# Altium schematic symbol library LL.SCHLIB: 121 symbols (part 1 of 3)
Pins are listed as number, name and electrical type; pins without a type are passive.

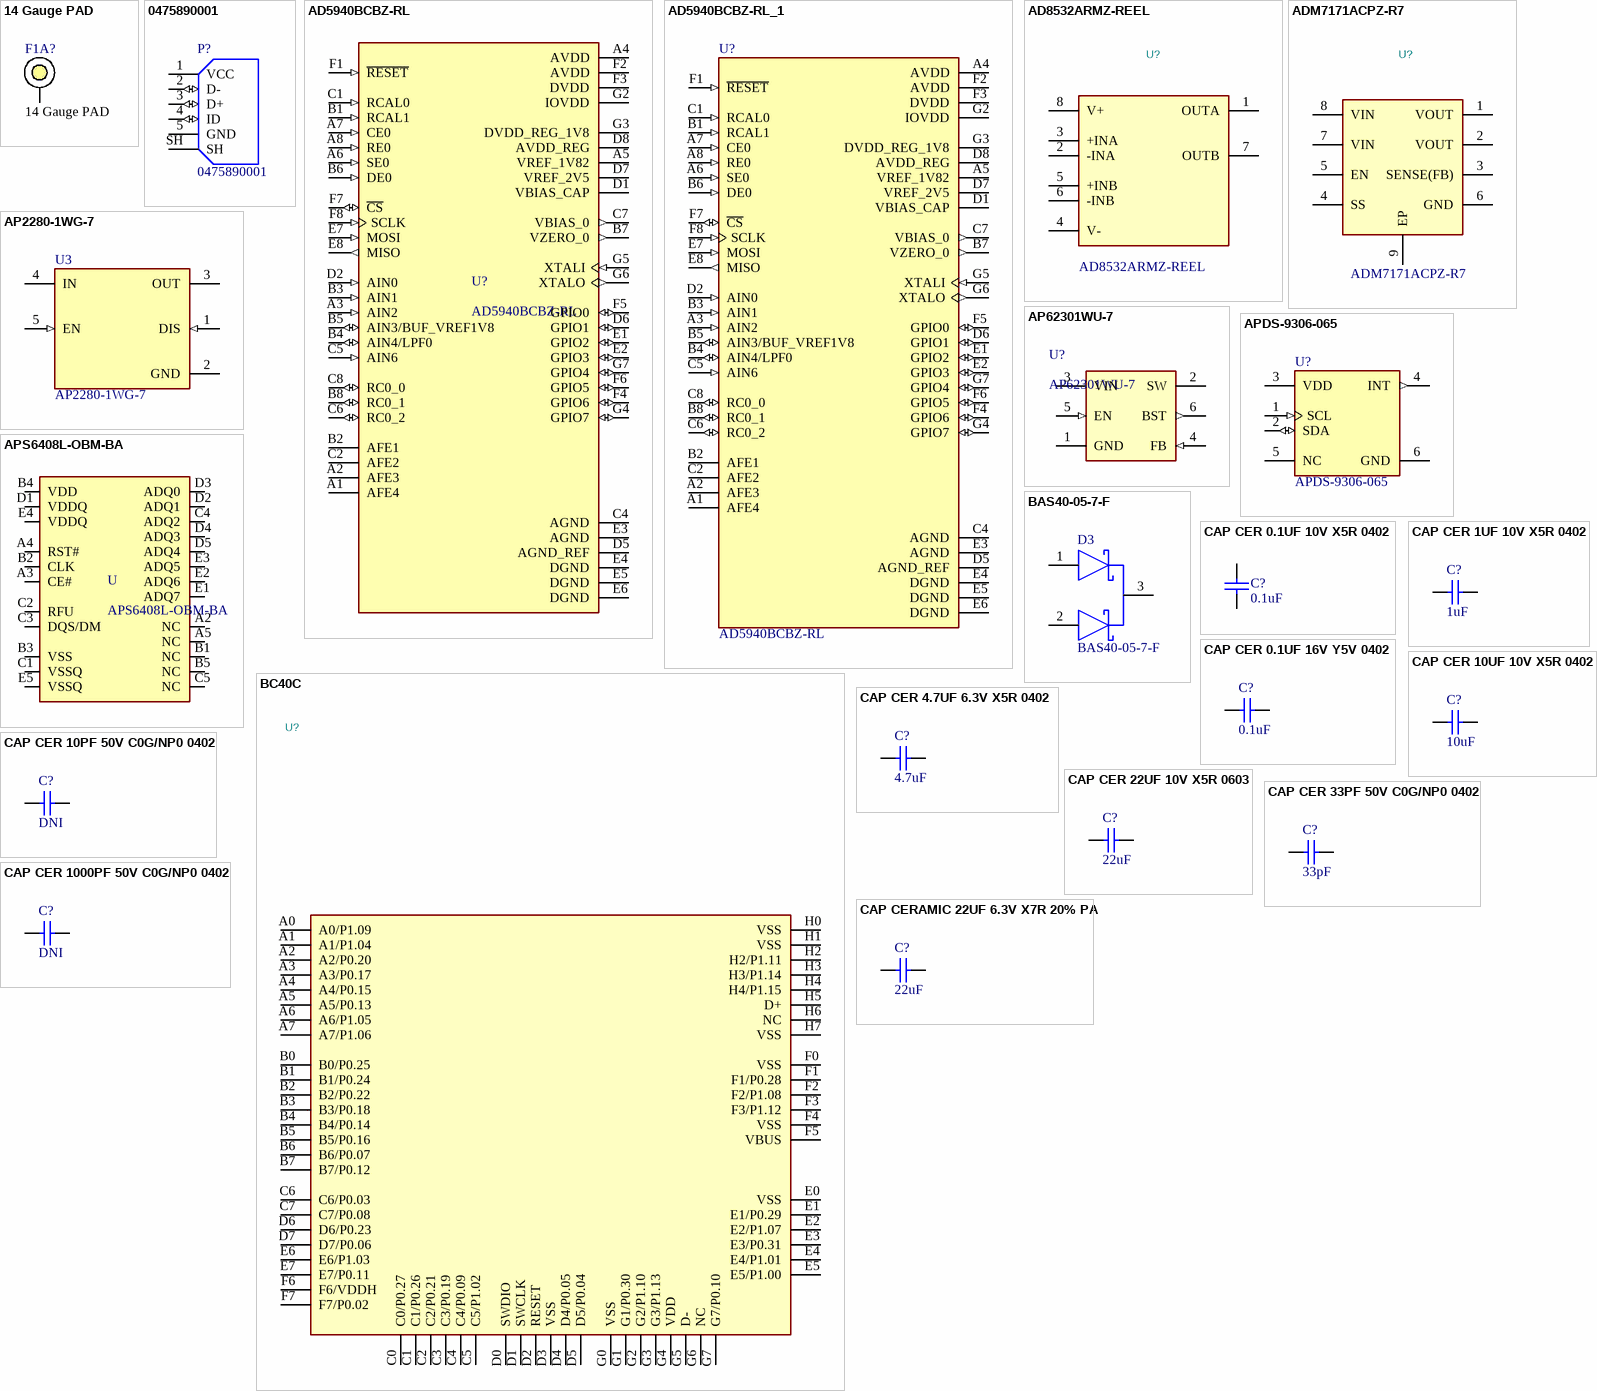
[diagram p0: symbols 14 Gauge PAD to CAP CERAMIC 22UF 6.3V X7R 20% PA]

## 14 Gauge PAD
designator F1A?  (no BOM)
5.2MM WIRE PAD; Number: NA; Manufacturer: NA
footprint PAD_2MM_14gauge (1 mm Probe Pad)
pins: 1

## 0475890001
designator P?
Conn Micro USB Type AB RCP 5 POS 0.65mm Solder RA SMD 5 Terminal 1 Port T/R; Manufacturer: Molex; Part #: S-CONN-009; ManType: 0475890001; Availability: Unavailable
footprint *MOLEX_0475890001
footprint *MOLEX_0475890001
pins: 1 VCC (power), 2 D- (io), 3 D+ (io), 4 ID (io), 5 GND (power), SH (power)

## AD5940BCBZ-RL
designator U?
AFE Electrochemical Measurement 1 ADC 16bit 3.3V 56-Pin WLCSP T/R; Manufacturer: Analog Devices; Interface: Analog; Operating Supply Current: 300uA; Supplier 1: Digikey; Supplier Part Number 1: 505-AD5940BCBZ-RLCT-ND; Manufacturer Part Number: AD5940BCBZ-RL; RoHS: Yes; Category: Analog to Digital Converters (ADCs); Stock: 4230; Pricing: 1=13.27, 10=9.176, 25=8.108, 100=6.9004, 250=6.68752 (USD); Pins: 56; Output Type: Analog; RoHS Compliant: Yes
footprint BGA56N40P7X8_356X416X55N
pins: A1 AFE4, A2 AFE3, A3 AIN2 (in), A4 AVDD (power), A5 VREF_1V82, A6 SE0 (in), A7 CE0 (in), A8 RE0 (in), B1 RCAL1 (in), B2 AFE1, B3 AIN1 (in), B4 AIN4/LPF0 (io), B5 AIN3/BUF_VREF1V8 (io), B6 DE0 (in), B7 VZERO_0 (out), B8 RC0_1 (io), C1 RCAL0 (in), C2 AFE2, C4 AGND (power), C5 AIN6 (in), C6 RC0_2 (io), C7 VBIAS_0 (out), C8 RC0_0 (io), D1 VBIAS_CAP, D2 AIN0 (in), D5 AGND_REF (power), D6 GPIO1 (io), D7 VREF_2V5, D8 AVDD_REG, E1 GPIO2 (io), E2 GPIO3 (io), E3 AGND (power), E4 DGND (power), E5 DGND (power), E6 DGND (power), E7 MOSI (in), E8 MISO (out), F1 ~{RESET} (in), F2 AVDD (power), F3 DVDD (power), F4 GPIO6 (io), F5 GPIO0 (io), F6 GPIO5 (io), F7 ~{CS} (io), F8 SCLK (in), G2 IOVDD (power), G3 DVDD_REG_1V8, G4 GPIO7 (io), G5 XTALI (in), G6 XTALO (out), G7 GPIO4 (io)

## AD5940BCBZ-RL_1
designator U?, comment AD5940BCBZ-RL
AFE Electrochemical Measurement 1 ADC 16bit 3.3V 56-Pin WLCSP T/R; Manufacturer: Analog Devices; Interface: Analog; Operating Supply Current: 300uA; Supplier 1: Digikey; Supplier Part Number 1: 505-AD5940BCBZ-RLCT-ND; Manufacturer Part Number: AD5940BCBZ-RL; RoHS: Yes; Category: Analog to Digital Converters (ADCs); Stock: 4230; Pricing: 1=13.27, 10=9.176, 25=8.108, 100=6.9004, 250=6.68752 (USD); Pins: 56; Output Type: Analog; RoHS Compliant: Yes
footprint BGA56N40P7X8_356X416X55N
pins: A1 AFE4, A2 AFE3, A3 AIN2 (in), A4 AVDD (power), A5 VREF_1V82, A6 SE0 (in), A7 CE0 (in), A8 RE0 (in), B1 RCAL1 (in), B2 AFE1, B3 AIN1 (in), B4 AIN4/LPF0 (io), B5 AIN3/BUF_VREF1V8 (io), B6 DE0 (in), B7 VZERO_0 (out), B8 RC0_1 (io), C1 RCAL0 (in), C2 AFE2, C4 AGND (power), C5 AIN6 (in), C6 RC0_2 (io), C7 VBIAS_0 (out), C8 RC0_0 (io), D1 VBIAS_CAP, D2 AIN0 (in), D5 AGND_REF (power), D6 GPIO1 (io), D7 VREF_2V5, D8 AVDD_REG, E1 GPIO2 (io), E2 GPIO3 (io), E3 AGND (power), E4 DGND (power), E5 DGND (power), E6 DGND (power), E7 MOSI (in), E8 MISO (out), F1 ~{RESET} (in), F2 AVDD (power), F3 DVDD (power), F4 GPIO6 (io), F5 GPIO0 (io), F6 GPIO5 (io), F7 ~{CS} (io), F8 SCLK (in), G2 IOVDD (power), G3 DVDD_REG_1V8, G4 GPIO7 (io), G5 XTALI (in), G6 XTALO (out), G7 GPIO4 (io)

## AD8532ARMZ-REEL
designator U?
Op Amp Dual GP R-R I/O 6V Automotive 8-Pin MSOP T/R / IC OPAMP GP 3MHZ RRO 8MSOP; Manufacturer: Analog Devices; Common Mode Rejection Ratio: 47dB; Min Supply Voltage: 2.7V; Voltage Gain: 98.06dB; Number of Circuits: 2; Slew Rate: 5V/µs; Input Bias Current: 5pA; Input Offset Voltage (Vos): 25mV; Operating Supply Current: 2.5mA; Output Current per Channel: 250mA; Input Voltage Noise Density: 45nV/sqrt Hz; Power Supply Rejection Ratio (PSRR): 55dB; Quiescent Current: 1.25mA; Amplifier Type: GENERAL PURPOSE; Settling Time: 1.4us; Supplier: Digikey; Supplier Part Number: AD8532ARMZ-REELCT-ND; Manufacturer Part Number: AD8532ARMZ-REEL; RoHS: Yes; Category: Amplifiers - Op Amps, Buffer, Instrumentation; Stock: 11818; Pricing: 1=2.22, 10=1.424, 25=1.2136, 100=0.9769, 250=0.86144, 500=0.79092, 1000=0.73223 (USD); Case/Package: MSOP; Pins: 8; Min Operating Temperature: -40°C; Max Operating Temperature: 85°C; Gain Bandwidth Product: 3MHz; Max Supply Voltage: 6V; Packaging: Tape and Reel; Number of Channels: 2; Bandwidth: 3MHz; Package Quantity: 3000; Unity Gain Bandwidth Product: 3MHz; Number of Elements: 2; Number of Amplifiers: 2; Series: -; Technology: CMOS; Radiation Hardening: No; Reach SVHC Compliant: No; Lead Free: Contains Lead; RoHS Compliant: Yes; ComponentLink1URL: https://datasheet.ciiva.com/1793/ad8531-8532-8534-1793585.pdf?src-supplier=Digikey; ComponentLink1Description: https://datasheet.ciiva.com/1793/ad8531-8532-8534-1793585.pdf?src-supplier=Digikey; ComponentLink2URL: https://datasheet.ciiva.com/1793/ad8531-8532-8534-1793586.pdf?src-supplier=Digikey; ComponentLink2Description: https://datasheet.ciiva.com/1793/ad8531-8532-8534-1793586.pdf?src-supplier=Digikey; ComponentLink3URL: https://datasheet.ciiva.com/1793/ad8531-8532-8534-1793587.pdf?src-supplier=Digikey; ComponentLink3Description: https://datasheet.ciiva.com/1793/ad8531-8532-8534-1793587.pdf?src-supplier=Digikey; ComponentLink4URL: https://datasheet.ciiva.com/2973/ad8531-8532-8534-2973058.pdf?src-supplier=Avnet; ComponentLink4Description: https://datasheet.ciiva.com/2973/ad8531-8532-8534-2973058.pdf?src-supplier=Avnet; ComponentLink5URL: https://datasheet.ciiva.com/2974/ad8531-8532-8534-2974669.pdf?src-supplier=Avnet; ComponentLink5Description: https://datasheet.ciiva.com/2974/ad8531-8532-8534-2974669.pdf?src-supplier=Avnet
footprint 8-TSSOP/8-MSOP
pins: 1 OUTA, 2 -INA, 3 +INA, 4 V-, 5 +INB, 6 -INB, 7 OUTB, 8 V+

## ADM7171ACPZ-R7
designator U?
IC REG LDO ADJ 1A 8LFCSP; Manufacturer: Analog Devices; Min Input Voltage: 2.3V; Max Supply Voltage: 6.5V; Dropout Voltage: 84mV; Output Voltage: 5V; Number of Regulators: 1; Min Current Limit: 1.3A; Min Output Voltage: 1.2V; Polarity: Positive; Quiescent Current: 700uA; Output Type: Adjustable; Input Bias Current: 1nA; Operating Supply Current: 4mA; Power Supply Rejection Ratio (PSRR): 60dB; Supplier: Digikey; Supplier Part Number: 505-ADM7171ACPZ-R7CT-ND; Manufacturer Part Number: ADM7171ACPZ-R7; RoHS: Yes; Category: Voltage Regulators - Linear; Stock: 856; Pricing: 1=5.64, 10=3.789, 25=3.3076, 100=2.7685, 250=2.50664, 500=2.34708 (USD); Mounting Technology: Surface Mount; Pins: 8; Min Operating Temperature: -40°C; Max Operating Temperature: 125°C; Output Current: 1A; Packaging: Tape and Reel; Number of Outputs: 1; Max Output current: 1A; Series: -; Package Quantity: 1500; Lead Free: Contains Lead; RoHS Compliant: Yes; Reach SVHC Compliant: No; ComponentLink1URL: http://www.farnell.com/datasheets/2256586.pdf?src-supplier=Farnell; ComponentLink1Description: http://www.farnell.com/datasheets/2256586.pdf?src-supplier=Farnell; ComponentLink2URL: http://www.mouser.com/ds/2/609/ADM7171-534153.pdf?src-supplier=Mouser; ComponentLink2Description: http://www.mouser.com/ds/2/609/ADM7171-534153.pdf?src-supplier=Mouser; ComponentLink3URL: https://www.analog.com/media/en/technical-documentation/data-sheets/ADM7171.pdf?src-supplier=Digikey; ComponentLink3Description: https://www.analog.com/media/en/technical-documentation/data-sheets/ADM7171.pdf?src-supplier=Digikey; ComponentLink4URL: https://datasheet.octopart.com/ADM7171ACPZ-R7-Analog-Devices-datasheet-28823777.pdf?src-supplier=Farnell; ComponentLink4Description: https://datasheet.octopart.com/ADM7171ACPZ-R7-Analog-Devices-datasheet-28823777.pdf?src-supplier=Farnell; ComponentLink5URL: http://www.analog.com/static/imported-files/data_sheets/ADM7171.pdf?src-supplier=Avnet; ComponentLink5Description: http://www.analog.com/static/imported-files/data_sheets/ADM7171.pdf?src-supplier=Avnet; ComponentLink6URL: http://www.farnell.com/datasheets/1962244.pdf?src-supplier=Element14; ComponentLink6Description: http://www.farnell.com/datasheets/1962244.pdf?src-supplier=Element14; ComponentLink7URL: https://datasheet.octopart.com/ADM7171ACPZ-R7-Analog-Devices-datasheet-138896454.pdf?src-supplier=Element14; ComponentLink7Description: https://datasheet.octopart.com/ADM7171ACPZ-R7-Analog-Devices-datasheet-138896454.pdf?src-supplier=Element14; ComponentLink8URL: http://www.farnell.com/datasheets/2256586.pdf?src-supplier=Newark; ComponentLink8Description: http://www.farnell.com/datasheets/2256586.pdf?src-supplier=Newark
footprint 8-LFCSP-WD_3x3
pins: 1 VOUT, 2 VOUT, 3 SENSE(FB), 4 SS, 5 EN, 6 GND, 7 VIN, 8 VIN, 9 EP

## AP2280-1WG-7
designator U3
IC PWR SWITCH P-CHAN 1:1 SOT25; Manufacturer: Diodes Inc.; Turn On Delay Time: 1us; Max Supply Voltage: 6V; Standoff Height: 0.013mm; Nominal Supply Current: 0.004uA; Min Supply Voltage: 1.5V; Number Of Outputs: 1; Max Junction Temp: +125°C; Turn Off Delay Time: 0.4us; On State Resistance: 80mΩ; Output Current: 2A; Max Power Dissipation: 750mW; Package: SOT25; Ambient Temperature Range Low: -40°C; Automotive: No; Temperature Range High: +85°C; Temperature Range Low: -40°C; Digikey Description: IC PWR SWITCH P-CHAN 1:1 SOT25; Ambient Temperature Range High: +85°C; Device Class L1: Integrated Circuits (ICs); ComponentLink2URL: https://www.diodes.com/assets/Datasheets/AP2280.pdf; Device Class L3: Hot Swap Controllers; Height: 1.4mm; Octopart: https://octopart.com/ap2280-1wg-7-diodes+inc.-12945742; ComponentLink2Description: Datasheet; Manufacturer Part Number: AP2280-1WG-7; Category: IC; Mouser Description: Power Switch ICs - Power Distribution Programmable Load Switch 1.5V - 6V; Temperature: -40°C to +85°C; RoHS: TRUE; Footprint Url: https://www.diodes.com/assets/Package-Files/SOT25.pdf; Device Class L2: Power Management ICs; Number Of Channels: 1; Lead Free: Yes
footprint FP-SOT25-MFG
footprint FP-SOT25-IPC_C
footprint FP-SOT25-IPC_B
footprint FP-SOT25-IPC_A
pins: 1 DIS (in), 2 GND (power), 3 OUT (power), 4 IN (power), 5 EN (in)

## AP62301WU-7
designator U?
Converter DC to DC 4.2V to 18V Synchronous Step Down Single-Out 3A 6-Pin TSOT-26 T/R; Manufacturer: Diodes; Supplier 1: Mouser; Supplier Part Number 1: 621-AP62301WU-7; Manufacturer Part Number: AP62301WU-7; RoHS: Yes; Category: Voltage Regulators - Switching; Stock: 423876; Pricing: 1=0.56, 10=0.37, 50=0.37, 100=0.258, 1000=0.18, 10000=0.13 (USD); ComponentLink1URL: https://www.diodes.com/assets/Datasheets/AP62300_AP62301_AP62300T.pdf?src-supplier=Digikey; ComponentLink1Description: https://www.diodes.com/assets/Datasheets/AP62300_AP62301_AP62300T.pdf?src-supplier=Digikey; ComponentLink2URL: https://datasheet.octopart.com/AP62301WU-7-Diodes-Inc.-datasheet-149521341.pdf?src-supplier=Newark; ComponentLink2Description: https://datasheet.octopart.com/AP62301WU-7-Diodes-Inc.-datasheet-149521341.pdf?src-supplier=Newark
footprint TSOT-23-6
pins: 1 GND (power), 2 SW (power), 3 VIN (power), 4 FB (in), 5 EN (in), 6 BST (out)

## APDS-9306-065
designator U?
Light to Digital Ambient Light Sensor Digital 6-Pin SMD T/R; Manufacturer: Broadcom Avago; Output Type: I2C; Wavelength: 560nm; Max Supply Voltage: 3.6V; Min Supply Voltage: 1.7V; Operating Supply Current: 85uA; Supplier: Digikey; Supplier Part Number: 516-3578-1-ND; Manufacturer Part Number: APDS-9306-065; RoHS: Yes; Category: Optical Sensors; Stock: 87315; Pricing: 1=1.44, 5=1.214, 10=1.127, 25=1.0228, 50=0.9504, 100=0.8831, 500=0.74484, 1000=0.69222 (USD); Mounting Technology: Surface Mount; Case/Package: SMD/SMT; Min Operating Temperature: -40°C; Max Operating Temperature: 85°C; Packaging: Cut Tape; Series: -; Height: 750um; RoHS Compliant: Yes; ComponentLink1URL: http://www.farnell.com/datasheets/2631303.pdf?src-supplier=Farnell; ComponentLink1Description: http://www.farnell.com/datasheets/2631303.pdf?src-supplier=Farnell; ComponentLink2URL: https://docs.broadcom.com/docs/AV02-4755EN?src-supplier=Digikey; ComponentLink2Description: https://docs.broadcom.com/docs/AV02-4755EN?src-supplier=Digikey; ComponentLink3URL: http://www.farnell.com/datasheets/2631303.pdf?src-supplier=Newark; ComponentLink3Description: http://www.farnell.com/datasheets/2631303.pdf?src-supplier=Newark
footprint FP-APDS-9306-065-MFG
pins: 1 SCL (in), 2 SDA (io), 3 VDD (power), 4 INT (out), 5 NC, 6 GND (power)

## APS6408L-OBM-BA
designator U
Double-Data-Rate Octal SPI PSRAM; Manufacturer: APMEMORY; Value: APS6408L-OBM-BA; Manufacturer Part Number: APS6408L-OBM-BA
footprint BGA24C100P5X5_800X600X120N
pins: A2 NC, A3 CE#, A4 RST#, A5 NC, B1 NC, B2 CLK, B3 VSS, B4 VDD, B5 NC, C1 VSSQ, C2 RFU, C3 DQS/DM, C4 ADQ2, C5 NC, D1 VDDQ, D2 ADQ1, D3 ADQ0, D4 ADQ3, D5 ADQ4, E1 ADQ7, E2 ADQ6, E3 ADQ5, E4 VDDQ, E5 VSSQ

## BAS40-05-7-F
designator D3
DIODE ARRAY SCHOTTKY 40V SOT23-3; Manufacturer: Diodes Inc.; Max Surge Forward Current: 600mA; Max Junction Temp: +125°C; Capacitance: 4pF; Forward Current: 200mA; Peak Reverse Current: 0.02uA; Standoff Height: 0.013mm; Value: 4pF; Manufacturer Part Number: BAS40-05-7-F; Height: 1.1mm; Digikey Description: DIODE ARRAY SCHOTTKY 40V SOT23-3; Device Class L1: Discrete Semiconductors; Automotive: No; Temperature Range High: +125°C; Footprint Url: https://www.diodes.com/assets/Package-Files/SOT23.pdf; Device Class L3: Schottky Diodes; Category: Diode; Reverse Voltage: 40V; Temperature Range Low: -55°C; Mouser Description: Schottky Diodes & Rectifiers 40V 350mW; Max Repetitive Reverse Voltage: 40V; ComponentLink2Description: Datasheet; Temperature: -55°C to +125°C; ComponentLink2URL: https://www.diodes.com/assets/Datasheets/ds11006.pdf; RoHS: TRUE; Lead Free: Yes; Package: SOT23; Octopart: https://octopart.com/bas40-05-7-f-diodes+inc.-325986; Device Class L2: Diodes
footprint SOT-23
footprint FP-SOT23-IPC_C
footprint FP-SOT23-IPC_B
footprint FP-SOT23-IPC_A
pins: 1 1 ANODE, 2 2 ANODE, 3 COMMON CATHODE

## BC40C
designator U?  (value not drawn)
Bluetooth 5.2 Thread, Zigbee Modules, Secure IoT; Manufacturer: Fanstel; Supplier: Digikey; Supplier Part Number: 1914-BC40CCT-ND; Manufacturer Part Number: BC40C; RoHS: No; Stock: 522; Pricing: 1=18.16, 10=16.686, 25=15.9944, 100=14.0923, 250=13.40068, 500=12.53612 (USD)
footprint MODULE_BC40C
pins: A0 A0/P1.09, A1 A1/P1.04, A2 A2/P0.20, A3 A3/P0.17, A4 A4/P0.15, A5 A5/P0.13, A6 A6/P1.05, A7 A7/P1.06, B0 B0/P0.25, B1 B1/P0.24, B2 B2/P0.22, B3 B3/P0.18, B4 B4/P0.14, B5 B5/P0.16, B6 B6/P0.07, B7 B7/P0.12, C0 C0/P0.27, C1 C1/P0.26, C2 C2/P0.21, C3 C3/P0.19, C4 C4/P0.09, C5 C5/P1.02, C6 C6/P0.03, C7 C7/P0.08, D0 SWDIO, D1 SWCLK, D2 RESET, D3 VSS, D4 D4/P0.05, D5 D5/P0.04, D6 D6/P0.23, D7 D7/P0.06, E0 VSS, E1 E1/P0.29, E2 E2/P1.07, E3 E3/P0.31, E4 E4/P1.01, E5 E5/P1.00, E6 E6/P1.03, E7 E7/P0.11, F0 VSS, F1 F1/P0.28, F2 F2/P1.08, F3 F3/P1.12, F4 VSS, F5 VBUS, F6 F6/VDDH, F7 F7/P0.02, G0 VSS, G1 G1/P0.30, G2 G2/P1.10, G3 G3/P1.13, G4 VDD, G5 D-, G6 NC, G7 G7/P0.10, H0 VSS, H1 VSS, H2 H2/P1.11, H3 H3/P1.14, H4 H4/P1.15, H5 D+, H6 NC, H7 VSS

## CAP CER 0.1UF 10V X5R 0402
designator C?, comment 0.1uF
CAP CER 0.1UF 10V X5R 0402; Manufacturer Part Number: GRM155R61A104KA01J; Manufacturer: Murata Electronics; Part #: E-CAP-003; Digi-Key Part Number: 490-6297-1-ND; Package: 0402
footprint CAPC1005X55USR (Capacitor, Chip; 1.00 mm L X 0.50 mm W X 0.55 mm H body)
pins: 1, 2

## CAP CER 0.1UF 16V Y5V 0402
designator C?, comment 0.1uF
CAP CER 0.1UF 16V Y5V 0402; Manufacturer Part Number: CL05F104ZO5NNNC; Manufacturer: Samsung Electro-Mechanics; Part #: E-CAP-042; Supplier Part Number 1: 1276-1004-1-ND; Package: 0402; Height: 0.55mm; Supplier 1: Digi-Key; value: 0.1uF
footprint CAPC1005X55USR (Capacitor, Chip; 1.00 mm L X 0.50 mm W X 0.55 mm H body)
pins: 1, 2

## CAP CER 1UF 10V X5R 0402
designator C?, comment 1uF
CAP CER 1UF 10V X5R 0402; Manufacturer Part Number: CL05A105MP5NNNC; Manufacturer: Samsung Electro-Mechanics; Part #: E-CAP-042; Supplier Part Number 1: 1276-1448-1-ND; Package: 0402; value: 1uF; Supplier 1: Digi-Key; Height: 0.55mm; ComponentLink1Description: New link; ComponentLink1URL: *
footprint CAPC1005X55USR (Capacitor, Chip; 1.00 mm L X 0.50 mm W X 0.55 mm H body)
pins: 1, 2

## CAP CER 4.7UF 6.3V X5R 0402
designator C?, comment 4.7uF
CAP CER 4.7UF 6.3V X5R 0402; Manufacturer Part Number: CL05A475KQ5NRNC; Manufacturer: Samsung Electro-Mechanics; Part #: E-CAP-042; Supplier Part Number 1: 1276-1481-1-ND; Package: 0402; value: 4.7uF; Supplier 1: Digi-Key; Height: 0.55mm; ComponentLink1Description: New link; ComponentLink1URL: *
footprint CAPC1005X55USR (Capacitor, Chip; 1.00 mm L X 0.50 mm W X 0.55 mm H body)
pins: 1, 2

## CAP CER 10PF 50V C0G/NP0 0402
designator C?, comment DNI
CAP CER 10PF 50V C0G/NP0 0402; Manufacturer Part Number: GRM1555C1H100JA01D; Manufacturer: Murata Electronics; Part #: E-CAP-042; Supplier Part Number 1: 490-5921-1-ND; Package: 0402; Height: 0.55mm; Supplier 1: Digi-Key; value: 10pF
footprint CAPC1005X55USR (Capacitor, Chip; 1.00 mm L X 0.50 mm W X 0.55 mm H body)
pins: 1, 2

## CAP CER 10UF 10V X5R 0402
designator C?, comment 10uF
CAP CER 10UF 10V X5R 0402; Manufacturer Part Number: GRM155R61A106ME11D; Manufacturer: Murata Electronics; Part #: E-CAP-042; Supplier Part Number 1: 490-GRM155R61A106ME11DCT-ND; Package: 0402; value: 10uF; Supplier 1: Digi-Key; Height: 0.7mm; ComponentLink1Description: New link; ComponentLink1URL: *
footprint CAPC1005X55USR (Capacitor, Chip; 1.00 mm L X 0.50 mm W X 0.55 mm H body)
pins: 1, 2

## CAP CER 22UF 10V X5R 0603
designator C?, comment 22uF
CAP CER 22UF 10V X5R 0603; Manufacturer Part Number: CL10A226MP8NUNE; Manufacturer: Samsung Electro-Mechanics; Supplier Part Number 1: 1276-1274-1-ND; Package: 0603; value: 22uF; Supplier 1: Digi-Key; Height: 0.9mm; ComponentLink1Description: New link; ComponentLink1URL: *
footprint CAPC1608X90N
pins: 1, 2

## CAP CER 33PF 50V C0G/NP0 0402
designator C?, comment 33pF
CAP CER 33PF 50V C0G/NP0 0402; Manufacturer Part Number: GRM1555C1H330JA01D; Manufacturer: Murata Electronics; Part #: E-CAP-042; Supplier Part Number 1: 490-5936-1-ND; Package: 0402; Height: 0.55mm; Supplier 1: Digi-Key; value: 33pF
footprint CAPC1005X55USR (Capacitor, Chip; 1.00 mm L X 0.50 mm W X 0.55 mm H body)
pins: 1, 2

## CAP CER 1000PF 50V C0G/NP0 0402
designator C?, comment DNI
CAP CER 1000PF 50V C0G/NP0 0402; Manufacturer Part Number: GRM1555C1H102JA01D; Manufacturer: Murata Electronics; Part #: E-CAP-042; value: 1nF; Supplier Part Number 1: 490-3244-1-ND; Package: 0402; Height: 0.55mm; Supplier 1: Digi-Key
footprint CAPC1005X55USR (Capacitor, Chip; 1.00 mm L X 0.50 mm W X 0.55 mm H body)
pins: 1, 2

## CAP CERAMIC 22UF 6.3V X7R 20% PA
designator C?, comment 22uF
CAP CERAMIC 22UF 6.3V X7R 20% PA; Manufacturer Part Number: GRM188R60G226M; Manufacturer: Murata Electronics; Package: 0603; value: 22uF; Supplier 1: Digi-Key; Height: 0.55mm; ComponentLink1Description: New link; ComponentLink1URL: *
footprint CAPC1005X55USR (Capacitor, Chip; 1.00 mm L X 0.50 mm W X 0.55 mm H body)
footprint CAPC100X50X60L25N
footprint CAPC1005X55USR (Capacitor, Chip; 1.00 mm L X 0.50 mm W X 0.55 mm H body)
pins: 1, 2

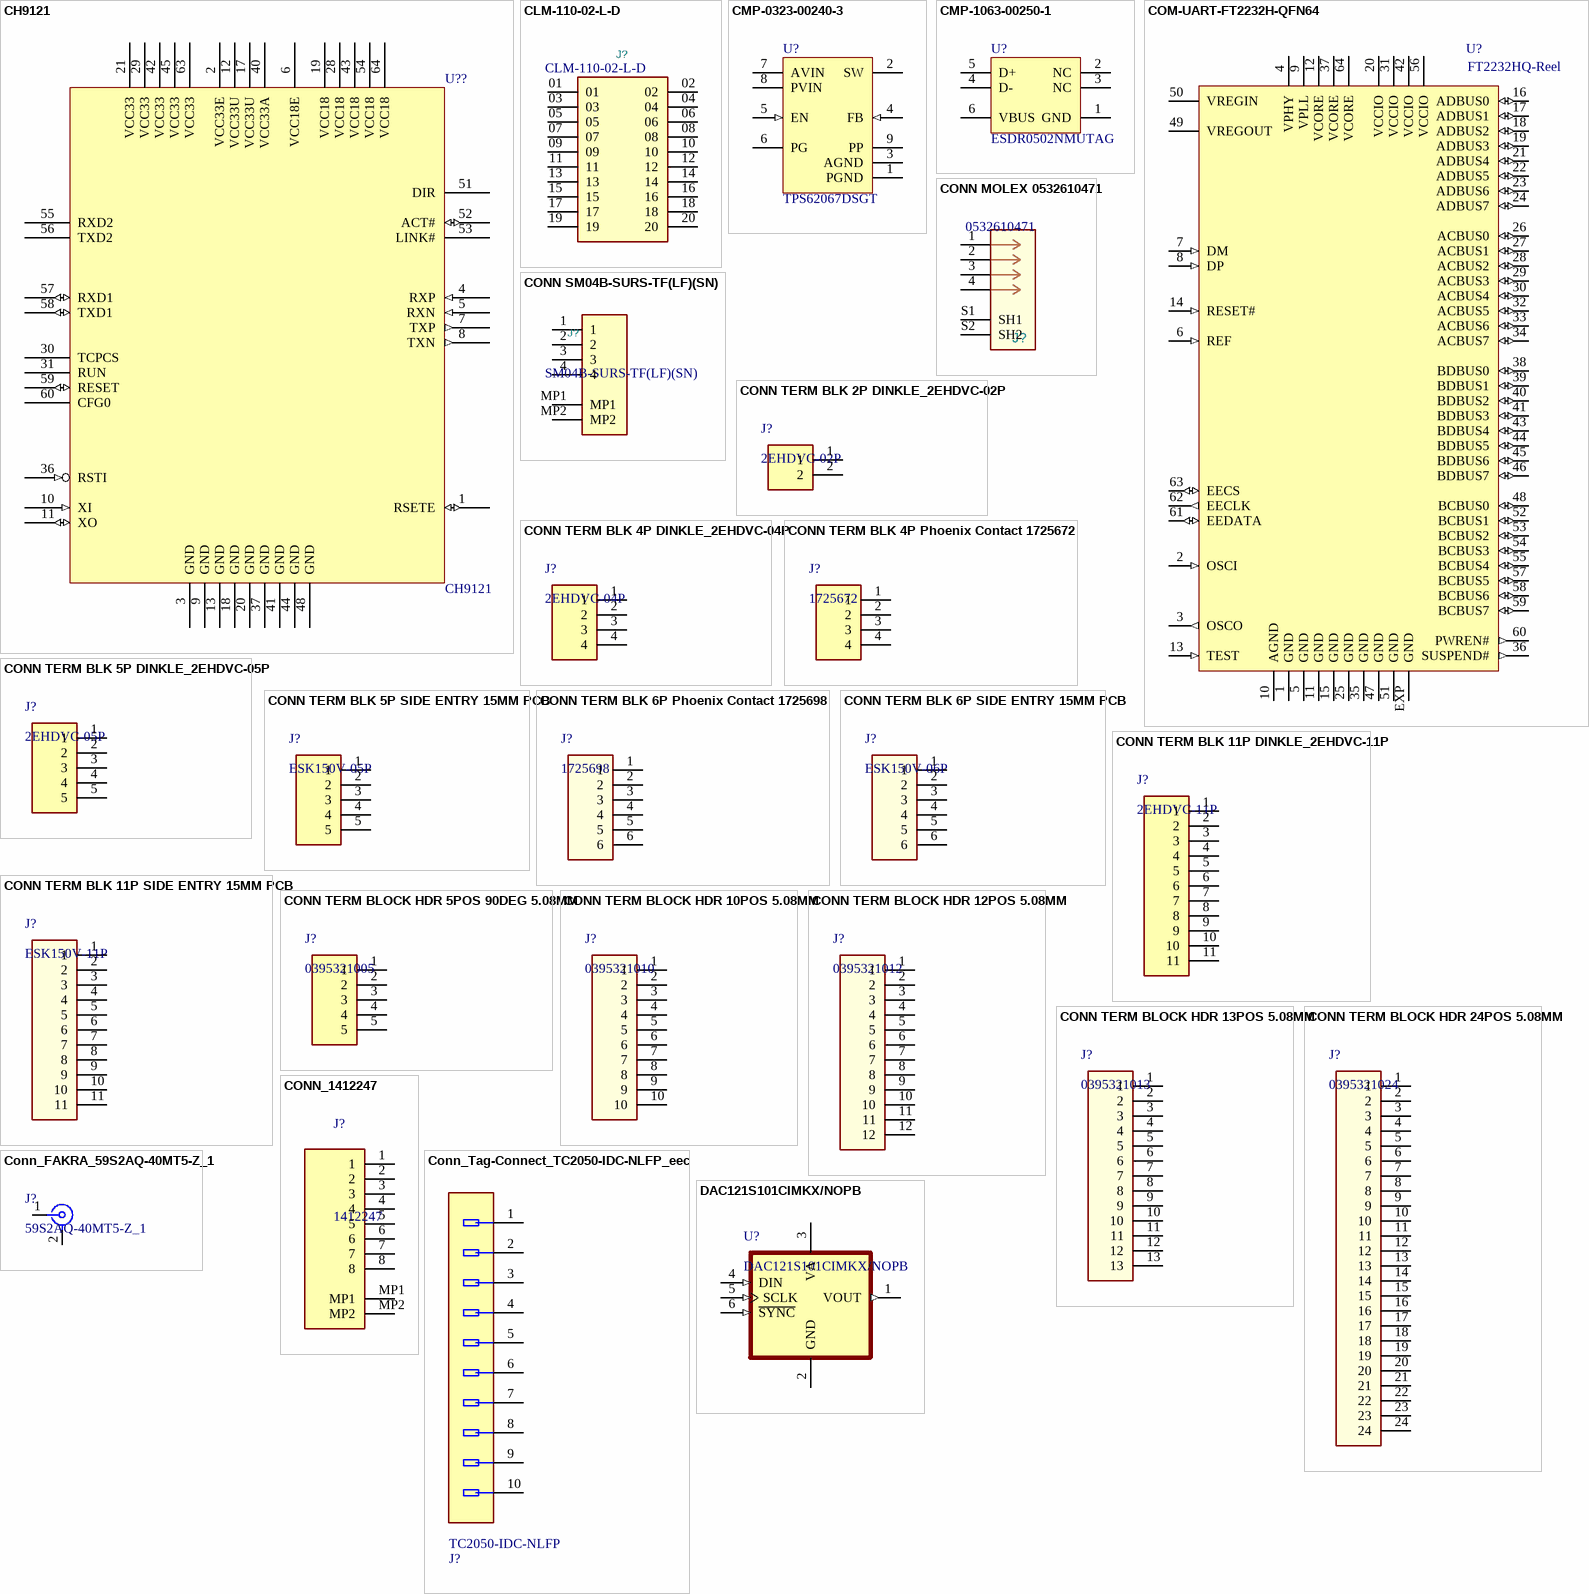
[diagram p1: symbols CH9121 to DAC121S101CIMKX/NOPB]

## CH9121
designator U??
Manufacturer: WCH-IC; Supplier Part Number 1: *; Supplier 1: *; Manufacturer Part Number: CH9121
footprint LQFP64_10x10
pins: 1 RSETE (io), 2 VCC33E (power), 3 GND (power), 4 RXP (in), 5 RXN (in), 6 VCC18E (power), 7 TXP (out), 8 TXN (out), 9 GND (power), 10 XI (in), 11 XO (io), 12 VCC33U (power), 13 GND (power), 17 VCC33U (power), 18 GND (power), 19 VCC18 (power), 20 GND (power), 21 VCC33 (power), 28 VCC18 (power), 29 VCC33 (power), 30 TCPCS, 31 RUN, 36 RSTI (in), 37 GND (power), 40 VCC33A (power), 41 GND (power), 42 VCC33 (power), 43 VCC18 (power), 44 GND (power), 45 VCC33 (power), 48 GND (power), 51 DIR, 52 ACT# (io), 53 LINK#, 54 VCC18 (power), 55 RXD2, 56 TXD2, 57 RXD1 (io), 58 TXD1 (io), 59 RESET (io), 60 CFG0, 63 VCC33 (power), 64 VCC18 (power)

## CLM-110-02-L-D
designator J?
Low Profile Dual-Wipe Socket, 1.00mm Pitch; Manufacturer: Samtec; Number of Contacts: 20; Gender: Receptacle; Current Rating: 3A; Pitch: 1mm; Row Spacing: 0.039inch; Supplier 1: Digikey; Supplier Part Number 1: SAM1129-10-ND; Manufacturer Part Number: CLM-110-02-L-D; RoHS: Yes; Category: Connectors; Stock: 251; Pricing: 1=6.94, 10=6.271, 100=5.4903, 500=4.62342, 1000=4.0455 (USD); Mounting Technology: Surface Mount; Contact Plating: Gold; Contact Material: Bronze; Color: Black; Number of Rows: 2; Termination: Solder; Connector Type: Receptacle; Number of Positions: 20; Series: CLM; Packaging: Bulk; Package Quantity: 1; Orientation: Straight; Radiation Hardening: No; Lead Free: Lead Free; RoHS Compliant: Yes; Reach SVHC Compliant: No; ComponentLink1URL: https://datasheet.ciiva.com/25617/0900766b8115142c-25617526.pdf?src-supplier=Rs; ComponentLink1Description: https://datasheet.ciiva.com/25617/0900766b8115142c-25617526.pdf?src-supplier=Rs; ComponentLink2URL: https://datasheet.ciiva.com/7997/81243-7997431.pdf?src-supplier=Element14; ComponentLink2Description: https://datasheet.ciiva.com/7997/81243-7997431.pdf?src-supplier=Element14; ComponentLink3URL: https://datasheet.ciiva.com/414/clm-1xx-xx-xx-d-xx-mkt-414163.pdf?src-supplier=Digikey; ComponentLink3Description: https://datasheet.ciiva.com/414/clm-1xx-xx-xx-d-xx-mkt-414163.pdf?src-supplier=Digikey
footprint SAMTEC_CLM-110-02-X-D
pins: 01, 02, 03, 04, 05, 06, 07, 08, 09, 10, 11, 12, 13, 14, 15, 16, 17, 18, 19, 20

## CMP-0323-00240-3
designator U?, comment TPS62067DSGT
Buck Step Down Regulator with 2.9 to 6 V Input and 0.8 to 6 V Output, -40 to 85 degC, 8-Pin WSON (DSG), Green (RoHS & no Sb/Br); Manufacturer: Texas Instruments; Vout(Max)(V): 6; Synchronous Rectification: TRUE; Duty Cycle(Max)(%): 100; Iout(Max)(A): 2; Iq(Typ)(mA): 0.018; Switch Current Limit(Typ)(A): 2.75; SubFamily: Step-Down Regulator; Vin(Min)(V): 2.9; Vout(Min)(V): 0.8; Rating: Catalog; Regulated Outputs(#): 1; ComponentLink3Description: URL Link1; Eco-Plan: Green (RoHS & no Sb/Br); Topology: Buck; PackageVersion: revB, Oct-2010; PartNumber: TPS62067DSGT; ComponentLink1URL: http://www.ti.com/general/docs/lit/getliterature.tsp?genericPartNumber=TPS62067&fileType=pdf; ComponentLink3URL: Samples URL:http://www.ti.com/product/tps62067#samples; PackageDescription: 8-Pin Plastic Small Outline No-Lead, 2 x 2 x 0.8 mm Body, 0.5 mm Pitch, Exposed Pad; ComponentLink2URL: http://www.ti.com/litv/pdf/mpds308a; PackageReference: DSG0008A; ComponentLink2Description: Package Specification; ComponentLink1Description: Datasheet; Vin(Max)(V): 6; Code_JEDEC: MO-229; Mounting Technology: Surface Mount; DatasheetVersion: SLVS833A
footprint DSG0008A_V (SON, 8-Leads, Body 2x2mm, Pitch 0.5mm, Thermal Pad 1.6x0.9mm, TI Recommended)
pins: 1 PGND (power) "GND supply pin for the output stage.", 2 SW (power) "This is the switch pin and is connected to the internal MOSFET switches. Connect the external inductor between this terminal and the output capacitor.", 3 AGND (power) "Analog GND supply pin for the control circuit.", 4 FB (in) "Feedback pin for the internal regulation loop. Connect the external resistor divider to this pin. In case of fixed output voltage option, connect this pin directly to the output capacitor", 5 EN (in) "This is the enable pin of the device. Pulling this pin to low forces the device into shutdown mode. Pulling this pin to high enables the device. This pin must be terminated", 6 PG (oc) "MODE: MODE pin = high forces the device to operate in fixed frequency PWM mode. MODE pin = low enables the Power Save Mode with automatic transition from PFM mode to fixed frequency PWM mode. This pin must be terminated.", 7 AVIN (power) "Analog VIN power supply for the control circuit. Need to be connected to PVIN and input capacitor.", 8 PVIN (power) "VIN power supply pin for the output stage.", 9 PP (power) "For good thermal performance, this PAD must be soldered to the land pattern on the pcb. This PAD should be used as device GND."

## CMP-1063-00250-1
designator U?, comment ESDR0502NMUTAG
Ultra Low Capacitance ESD Protection Array for High Speed Data Line Protection, 6-Pin UDFN, Pb-Free, Tape and Reel; Manufacturer: On Semiconductor; C Max (pF): 0.6; PPK Max (W): 100; V(BR) Min (V): 6; IR Max (uA): 1; Number of Lines: 4; VRWM Max (V): 5.5; Direction: Unidirectional; ComponentLink2URL: http://www.onsemi.cn/pub_link/Collateral/ESDR0502N-D.PDF; PackageDescription: 6-Pin Small Outline No-Lead, Body 1.2 x 1 mm, Pitch 0.4 mm; DatasheetVersion: Rev. 4; Packing: Tape and Reel; ComponentLink3URL: http://www.onsemi.com/pub_link/Collateral/517AA.PDF; PackageReference: UDFN-6-517AA-01; ComponentLink1Description: Manufacturer URL; ComponentLink2Description: Datasheet; ComponentLink3Description: Package Specification; PackageVersion: Rev. D, 09/2010; ComponentLink1URL: http://www.onsemi.com/; PartNumber: ESDR0502NMUTAG; RoHS: Pb-Free; Mounting Technology: Surface Mount
footprint ONSC-UDFN-6-517AA-01_V (SON, 6-Leads, Body 1.2x1mm, Pitch 0.4mm)
pins: 1 GND (power), 2 NC, 3 NC, 4 D-, 5 D+, 6 VBUS (power)

## COM-UART-FT2232H-QFN64
designator U?, comment FT2232HQ-Reel
Dual High Speed USB To Multipurpose UART/FIFO IC, 64-pin QFN, Tape and Reel; Manufacturer: FTDI; ComponentLink2Description: Datasheet; RevisionNote: DatasheetVersion updated to 2.21 Jun-2012; ComponentLink2URL: http://www.ftdichip.com/Support/Documents/DataSheets/ICs/DS_FT2232H.pdf; PackageReference: QFN64_2; ComponentLink1Description: Manufacturer URL; PackageDescription: 64-Pin Quad Flat No-Lead, 9 x 9 mm Body, 0.5 mm Pitch, 4.35 x 4.35 mm Exposed Pad; PackageVersion: Jun-12; DatasheetVersion: ver 2.21, Jun-2012; PartNumber: FT2232HQ-Reel; ComponentLink1URL: http://www.ftdichip.com/
footprint QFN64_2_N (QFN, 64-Leads, Body 9x9mm, Pitch 0.5mm, Thermal Pad 4.5x4.5mm, IPC Medium Density)
footprint QFN64_2_M (QFN, 64-Leads, Body 9x9mm, Pitch 0.5mm, Thermal Pad 4.5x4.5mm, IPC Low Density)
footprint QFN64_2_L (QFN, 64-Leads, Body 9x9mm, Pitch 0.5mm, Thermal Pad 4.5x4.5mm, IPC High Density)
footprint QFN64-9X9_EXP (64-QFN, 9 mm x 9 mm, 0.5 mm pitch)
footprint QFN64-9X9_EXP (64-QFN, 9 mm x 9 mm, 0.5 mm pitch)
footprint QFN64-9X9_EXP-1 (64-QFN, 9 mm x 9 mm, 0.5 mm pitch)
pins: 1 GND (power), 2 OSCI (in), 3 OSCO (out), 4 VPHY (power), 5 GND (power), 6 REF (in), 7 DM (in), 8 DP (in), 9 VPLL (power), 10 AGND (power), 11 GND (power), 12 VCORE (power), 13 TEST (in), 14 RESET# (in), 15 GND (power), 16 ADBUS0 (io), 17 ADBUS1 (io), 18 ADBUS2 (io), 19 ADBUS3 (io), 20 VCCIO (power), 21 ADBUS4 (io), 22 ADBUS5 (io), 23 ADBUS6 (io), 24 ADBUS7 (io), 25 GND (power), 26 ACBUS0 (io), 27 ACBUS1 (io), 28 ACBUS2 (io), 29 ACBUS3 (io), 30 ACBUS4 (io), 31 VCCIO (power), 32 ACBUS5 (io), 33 ACBUS6 (io), 34 ACBUS7 (io), 35 GND (power), 36 SUSPEND# (out), 37 VCORE (power), 38 BDBUS0 (io), 39 BDBUS1 (io), 40 BDBUS2 (io), 41 BDBUS3 (io), 42 VCCIO (power), 43 BDBUS4 (io), 44 BDBUS5 (io), 45 BDBUS6 (io), 46 BDBUS7 (io), 47 GND (power), 48 BCBUS0 (io), 49 VREGOUT (power), 50 VREGIN (power), 51 GND (power), 52 BCBUS1 (io), 53 BCBUS2 (io), 54 BCBUS3 (io), 55 BCBUS4 (io), 56 VCCIO (power), 57 BCBUS5 (io), 58 BCBUS6 (io), 59 BCBUS7 (io), 60 PWREN# (out), 61 EEDATA (io), 62 EECLK (out), 63 EECS (io), 64 VCORE (power), EXP GND (power)

## CONN MOLEX 0532610471
designator J?, comment 0532610471
1.25mm (.049") Pitch PicoBlade Header, Surface Mount, Right Angle, Lead-free, 4 Circuits; Manufacturer: Molex; Manufacturer Part Number: 53261-0471; Plating: Tin; Number of Positions: 4; Current Rating: 1A; Voltage Rating: 125V; Gender: Male; Glow Wire Compliant: Non-compliant; Supplier: Digikey; Supplier Part Number: WM7622CT-ND; RoHS: Yes; Category: Headers and Wire Housings; Stock: 54418; Pricing: 1=0.72, 10=0.612, 100=0.4757 (USD); Contact Plating: Tin; Contact Material: Tin; Color: Beige; Housing Material: Thermoplastic; Housing Color: Natural; Weight: 0.005598oz; Min Operating Temperature: -40°C; Max Operating Temperature: 105°C; Number of Rows: 1; Packaging: Cut Tape; Termination: SMD/SMT; Orientation: Right Angle; Package Quantity: 1000; Number of Circuits: 4; Voltage Rating (DC): 125V; Contact Gender: Male; Series: 53261; Contact Type: -; Pitch: 1.25mm; Flammability Rating: UL94 V-0; RoHS Compliant: Yes; Lead Free: Lead Free; Reach SVHC Compliant: Unknown
footprint MOLEX_0532610471
pins: 1, 2, 3, 4, S1 SH1, S2 SH2

## CONN SM04B-SURS-TF(LF)(SN)
designator J?, comment SM04B-SURS-TF(LF)(SN)
Conn Shrouded Header HDR 4 POS 0.8mm Solder RA SMD Embossed T/R; Manufacturer: JST; Body Plating: Tin; Current Rating: 500mA; Number of Poles: 4; Working Voltage: 30V; Gender: Male; Wire/Cable Gauge: 32AWG; Supplier 1: Digikey; Supplier Part Number 1: 455-3589-1-ND; Manufacturer Part Number: SM04B-SURS-TF(LF)(SN); RoHS: Yes; Category: Headers and Wire Housings; Stock: 24006; Pricing: 1=0.93, 10=0.709, 100=0.5434, 500=0.45478, 1000=0.42234 (USD); Mounting Technology: Surface Mount; Case/Package: SMD/SMT; Contact Plating: Tin; Contact Material: Copper Alloy,Bronze; Material: Polyamide; Contact Shape: Rectangular; Contact Finish - Mating: TIN; Insulation Material: Nylon; Insulation Color: Natural; Min Operating Temperature: -25°C; Max Operating Temperature: 85°C; Number of Rows: 1; Connector Type: Header; Termination: Solder; Number of Contacts: 4; Series: SUR; Fastening Type: Pull; Packaging: Cut Tape; Contact Type: Outer Shroud Contact; Number of Positions: 4; Voltage Rating: 30V; Voltage Rating (DC): 30V; Lead Pitch: 0.8mm; Reach SVHC Compliant: No; Lead Free: Lead Free; Flammability Rating: UL94 V-0; ComponentLink1URL: https://datasheet.ciiva.com/8052/1718811-8052273.pdf?src-supplier=Element14; ComponentLink1Description: https://datasheet.ciiva.com/8052/1718811-8052273.pdf?src-supplier=Element14; ComponentLink2URL: https://datasheet.ciiva.com/16487/esur-16487224.pdf?src-supplier=Future+Electronics; ComponentLink2Description: https://datasheet.ciiva.com/16487/esur-16487224.pdf?src-supplier=Future+Electronics
footprint SM04B-SURS-TF(LF)(SN)
pins: 1, 2, 3, 4, MP1, MP2

## CONN TERM BLK 2P DINKLE_2EHDVC-02P
designator J?, comment 2EHDVC-02P
Conn Shrouded Header HDR 2 POS 5.08mm Solder ST Thru-Hole; Manufacturer: Dinkle; Supplier 1: Digikey; Supplier Part Number 1: 5239-2EHDVC-02P-ND; Manufacturer Part Number: 2EHDVC-02P; RoHS: Yes; Pricing: 200=0.1562 (USD); RoHS Compliant: Yes
footprint DINKLE_TERM_2EHDVC-02P
pins: 1, 2

## CONN TERM BLK 4P DINKLE_2EHDVC-04P
designator J?, comment 2EHDVC-04P
Term Blk 4POS 5.08MM Hdr; Manufacturer: Dinkle; Supplier 1: Digikey; Supplier Part Number 1: 5239-2EHDVC-04P-ND; Manufacturer Part Number: 2EHDVC-04P; RoHS: Yes; Pricing: 200=0.29275 (USD); RoHS Compliant: Yes
footprint DINKLE_TERM_2EHDVC-04P
pins: 1, 2, 3, 4

## CONN TERM BLK 4P Phoenix Contact 1725672
designator J?, comment 1725672
Block, Terminal; 6 A; 63 V; 2.54 mm; 26 to 20 AWG; 4; Screw; Soldering; 1.5 kV; Manufacturer: Phoenix Contact; Voltage Rating: 125V; Number of Contacts: 4; Connector Type: Screw,PCB,Terminal Block; Current Rating: 6A; Max Supply Voltage: 63V; Number of Levels: 1; Wire/Cable Gauge: 20AWG; Wire Gauge (Max): 26AWG; Pitch: 2.54mm; Approvals: UL,CSA; Supplier 1: Digikey; Supplier Part Number 1: 277-1275-ND; Manufacturer Part Number: 1725672; RoHS: Yes; Category: Terminal Blocks; Stock: 7464; Pricing: 1=3.34, 10=3.197, 50=3.058, 100=2.9746, 250=2.78, 500=2.5576, 1000=2.36301, 2500=2.25875 (USD); Mounting Technology: Through Hole; Pins: 4; Weight: 0.044798oz; Contact Material: Tin; Color: Green; Housing Color: Green; Housing Material: Polyamide; Insulation Material: Nylon; Material: Nylon; Termination: Solder; Packaging: Bulk; Series: MPT; Voltage: 125V; Orientation: Straight; Number of Rows: 1; Max Current Rating: 6A; Number of Poles: 4; Number of Positions Per Level: 4; Current: 6A; Number of Positions: 4; Number of Circuits: 4; Number of Ways: 4; Length: 6.2mm; Width: 14mm; Height: 10.62mm; Depth: 6.2mm; Wire Gauge (Min): 20AWG; Radiation Hardening: No; Reach SVHC Compliant: No; RoHS Compliant: Yes; Lead Free: Lead Free; Flammability Rating: UL94 V-0; ComponentLink1URL: https://datasheet.ciiva.com/823/1725672-823812.pdf?src-supplier=Digikey; ComponentLink1Description: https://datasheet.ciiva.com/823/1725672-823812.pdf?src-supplier=Digikey; ComponentLink2URL: https://datasheet.ciiva.com/1120/5117-1120512.pdf?src-supplier=Farnell; ComponentLink2Description: https://datasheet.ciiva.com/1120/5117-1120512.pdf?src-supplier=Farnell; ComponentLink3URL: https://datasheet.ciiva.com/11757/0900766b80363fc3-11757428.pdf?src-supplier=Rs; ComponentLink3Description: https://datasheet.ciiva.com/11757/0900766b80363fc3-11757428.pdf?src-supplier=Rs; ComponentLink4URL: https://datasheet.ciiva.com/15169/getdatasheetpartid-177917-15169671.pdf?src-supplier=Verical; ComponentLink4Description: https://datasheet.ciiva.com/15169/getdatasheetpartid-177917-15169671.pdf?src-supplier=Verical; ComponentLink5URL: https://datasheet.ciiva.com/16071/1725672-16071850.pdf?src-supplier=Onlinecomponents.com; ComponentLink5Description: https://datasheet.ciiva.com/16071/1725672-16071850.pdf?src-supplier=Onlinecomponents.com; ComponentLink6URL: https://datasheet.ciiva.com/7053/1697274-7053094.pdf?src-supplier=Newark; ComponentLink6Description: https://datasheet.ciiva.com/7053/1697274-7053094.pdf?src-supplier=Newark; ComponentLink7URL: https://datasheet.ciiva.com/1118/5117-1118545.pdf?src-supplier=Element14; ComponentLink7Description: https://datasheet.ciiva.com/1118/5117-1118545.pdf?src-supplier=Element14
footprint PHOENIX_1725672
pins: 1, 2, 3, 4

## CONN TERM BLK 5P DINKLE_2EHDVC-05P
designator J?, comment 2EHDVC-05P
TERM BLK 5POS 5.08MM HDR; Manufacturer: DINKLE; Supplier Part Number 1: 2861-2EHDVC-05P-ND; Supplier 1: Digi-Key; Manufacturer Part Number: 2EHDVC-05P; Pins: 5; Pitch: 5.08mm
footprint DINKLE_TERM_2EHDVC-05P
pins: 1, 2, 3, 4, 5

## CONN TERM BLK 5P SIDE ENTRY 15MM PCB
designator J?, comment ESK150V-05P
PCB Terminal Blocks,Screw Connection,Pitch:15.00mm,M5,600V,125A; Manufacturer: DINKLE; Pitch: 15mm; Supplier Part Number 1: *; Supplier 1: *; Manufacturer Part Number: ESK150V-05P; Pins: 5
footprint DINKLE_TERM_ESK150V-05P
pins: 1, 2, 3, 4, 5

## CONN TERM BLK 6P Phoenix Contact 1725698
designator J?, comment 1725698
Block, Terminal; 6 A; 63 V; 2.54 mm; 26 to 20 AWG; 6; Screw; Soldering; 1.5 kV; Manufacturer: Phoenix Contact; Voltage Rating: 125V; Number of Contacts: 6; Current Rating: 6A; Number of Levels: 1; Connector Type: Screw,PCB,Terminal Block; Max Supply Voltage: 63V; Wire Gauge (Max): 26AWG; Wire Gauge (Min): 20AWG; Pitch: 2.54mm; Stripping Length: 4.5mm; Approvals: UL,CSA,cULus,EAC; Supplier 1: Digikey; Supplier Part Number 1: 277-1277-ND; Manufacturer Part Number: 1725698; RoHS: Yes; Category: Terminal Blocks; Stock: 1948; Pricing: 1=4.82, 10=4.609, 50=4.4834, 100=4.19, 250=3.8548, 500=3.5615, 1000=3.4044 (USD); Mounting Technology: Through Hole; Pins: 6; Color: Green; Housing Material: Polyamide; Contact Material: Tin; Housing Color: Green; Insulation Material: Nylon; Weight: 0.06314oz; Termination: Solder; Packaging: Bulk; Series: MPT; Voltage: 125V; Number of Rows: 1; Number of Positions Per Level: 6; Current: 6A; Number of Positions: 6; Orientation: Straight; Number of Poles: 6; Max Current Rating: 6A; Number of Circuits: 6; Length: 6.2mm; Width: 16mm; Height: 15.7mm; Depth: 6.2mm; Wire/Cable Gauge: 26AWG; Radiation Hardening: No; RoHS Compliant: Yes; Reach SVHC Compliant: No; Lead Free: Lead Free; Flammability Rating: UL94 V-0; ComponentLink1URL: https://datasheet.ciiva.com/823/1725698-823826.pdf?src-supplier=Digikey; ComponentLink1Description: https://datasheet.ciiva.com/823/1725698-823826.pdf?src-supplier=Digikey; ComponentLink2URL: https://datasheet.ciiva.com/1120/1697162-1120513.pdf?src-supplier=Farnell; ComponentLink2Description: https://datasheet.ciiva.com/1120/1697162-1120513.pdf?src-supplier=Farnell; ComponentLink3URL: https://datasheet.ciiva.com/15169/getdatasheetpartid-136937-15169498.pdf?src-supplier=Verical; ComponentLink3Description: https://datasheet.ciiva.com/15169/getdatasheetpartid-136937-15169498.pdf?src-supplier=Verical; ComponentLink4URL: https://datasheet.ciiva.com/16071/1725698-16071854.pdf?src-supplier=Onlinecomponents.com; ComponentLink4Description: https://datasheet.ciiva.com/16071/1725698-16071854.pdf?src-supplier=Onlinecomponents.com; ComponentLink5URL: https://datasheet.ciiva.com/26340/788079-da-01-it-printklemme-1725698-100-st-26340925.pdf?src-supplier=Conrad; ComponentLink5Description: https://datasheet.ciiva.com/26340/788079-da-01-it-printklemme-1725698-100-st-26340925.pdf?src-supplier=Conrad; ComponentLink6URL: https://datasheet.ciiva.com/1118/1697162-1118546.pdf?src-supplier=Element14; ComponentLink6Description: https://datasheet.ciiva.com/1118/1697162-1118546.pdf?src-supplier=Element14; ComponentLink7URL: https://datasheet.ciiva.com/14607/70054339-14607274.pdf?src-supplier=Allied+Electronics; ComponentLink7Description: https://datasheet.ciiva.com/14607/70054339-14607274.pdf?src-supplier=Allied+Electronics
footprint PHOENIX_1725698
pins: 1, 2, 3, 4, 5, 6

## CONN TERM BLK 6P SIDE ENTRY 15MM PCB
designator J?, comment ESK150V-06P
PCB Terminal Blocks,Screw Connection,Pitch:15.00mm,M5,600V,125A; Manufacturer: DINKLE; Pitch: 15mm; Supplier Part Number 1: *; Supplier 1: *; Manufacturer Part Number: ESK150V-06P; Pins: 6
footprint DINKLE_TERM_ESK150V-06P
pins: 1, 2, 3, 4, 5, 6

## CONN TERM BLK 11P DINKLE_2EHDVC-11P
designator J?, comment 2EHDVC-11P
TERM BLK 5POS 5.08MM HDR; Manufacturer: DINKLE; Supplier 1: Digi-Key; Manufacturer Part Number: 2EHDVC-11P; Pins: 11; Pitch: 5.08mm
footprint DINKLE_TERM_2EHDVC-11P
pins: 1, 2, 3, 4, 5, 6, 7, 8, 9, 10, 11

## CONN TERM BLK 11P SIDE ENTRY 15MM PCB
designator J?, comment ESK150V-11P
PCB Terminal Blocks,Screw Connection,Pitch:15.00mm,M5,600V,125A; Manufacturer: DINKLE; Pitch: 15mm; Supplier Part Number 1: *; Supplier 1: *; Manufacturer Part Number: ESK150V-11P; Pins: 11
footprint DINKLE_TERM_ESK150V-11P
pins: 1, 2, 3, 4, 5, 6, 7, 8, 9, 10, 11

## CONN TERM BLOCK HDR 5POS 90DEG 5.08MM
designator J?, comment 0395321005
Conn Shrouded Header (4 Sides) HDR 5 POS 5.08mm Solder RA Thru-Hole Eurostyle™; Manufacturer: Molex; Manufacturer Part Number: 39532-1005; Voltage Rating: 300V; Current Rating: 15A; Max Voltage Rating (DC): 300.3kV; Number of Positions: 5; Gender: Male; Supplier 1: Digikey; Supplier Part Number 1: WM7848-ND; RoHS: Yes; Category: Terminal Blocks; Stock: 2679; Pricing: 1=1.33, 10=1.086, 100=0.8849, 520=0.76454, 1040=0.71898, 5200=0.64665 (USD); Mounting Technology: Through Hole; Contact Plating: Tin; Color: Black; Contact Material: Brass; Housing Color: Black; Housing Material: Nylon; Min Operating Temperature: -40°C; Max Operating Temperature: 105°C; Package Quantity: 520; Number of Rows: 1; Number of Contacts: 5; Termination: Solder; Orientation: Horizontal; Number of Circuits: 5; Series: 39532; Length: 27.4mm; Width: 12mm; Pitch: 5.08mm; Reach SVHC Compliant: Yes; ELV: Compliant; Halogen Free: Low Halogen; Lead Free: Lead Free; Flammability Rating: UL94 V-0; RoHS Compliant: Yes; ComponentLink1URL: https://datasheet.ciiva.com/23910/1777191-23910021.pdf?src-supplier=Newark; ComponentLink1Description: https://datasheet.ciiva.com/23910/1777191-23910021.pdf?src-supplier=Newark; ComponentLink2URL: https://datasheet.ciiva.com/5190/0395321005-terminal-blocks-166072-5190695.pdf?src-supplier=Mouser; ComponentLink2Description: https://datasheet.ciiva.com/5190/0395321005-terminal-blocks-166072-5190695.pdf?src-supplier=Mouser
footprint CONN05_39532_MOL
pins: 1, 2, 3, 4, 5

## CONN TERM BLOCK HDR 10POS 5.08MM
designator J?, comment 0395321010
Conn Shrouded Header (4 Sides) HDR 10 POS 5.08mm Solder RA Thru-Hole Eurostyle™; Manufacturer: Molex; Manufacturer Part Number: 39532-1010; Max Voltage Rating (DC): 300.3kV; Current Rating: 15A; Voltage Rating: 300V; Number of Positions Per Level: 10; Number of Levels: 1; Supplier 1: Mouser; Supplier Part Number 1: 538-39532-1010; RoHS: Yes; Category: Terminal Blocks; Stock: 1422; Pricing: 1=2.85, 10=2.18, 50=2.18, 100=1.72, 1000=1.5, 10000=1.26 (USD); Mounting Technology: Through Hole; Color: Black; Housing Color: Black; Contact Material: Brass; Housing Material: Nylon; Min Operating Temperature: -40°C; Max Operating Temperature: 105°C; Package Quantity: 1; Packaging: Bulk; Termination: Solder; Current: 15A; Voltage: 300V; Number of Positions: 10; Number of Contacts: 10; Orientation: Horizontal; Number of Rows: 1; Number of Circuits: 10; Series: Eurostyle™ ESE 39532; Pitch: 5.08mm; ELV: Compliant; Lead Free: Lead Free; Flammability Rating: UL94 V-0; RoHS Compliant: Yes; ComponentLink1URL: https://datasheet.ciiva.com/5192/0395321010-terminal-blocks-136941-5192164.pdf?src-supplier=Mouser; ComponentLink1Description: https://datasheet.ciiva.com/5192/0395321010-terminal-blocks-136941-5192164.pdf?src-supplier=Mouser; ComponentLink2URL: https://datasheet.ciiva.com/796/395321002-sd-796594.pdf?src-supplier=Digikey; ComponentLink2Description: https://datasheet.ciiva.com/796/395321002-sd-796594.pdf?src-supplier=Digikey
footprint CONN10_39532_MOL
pins: 1, 2, 3, 4, 5, 6, 7, 8, 9, 10

## CONN TERM BLOCK HDR 12POS 5.08MM
designator J?, comment 0395321012
Conn Shrouded Header (4 Sides) HDR 12 POS 5.08mm Solder RA Thru-Hole Eurostyle™; Manufacturer: Molex; Manufacturer Part Number: 39532-1012; Max Voltage Rating (DC): 300.3kV; Number of Contacts: 12; Supplier 1: Digikey; Supplier Part Number 1: WM7852-ND; RoHS: Yes; Stock: 1020; Pricing: 1=3.45, 10=2.629, 240=1.93088, 720=1.76926, 1200=1.70453, 5040=1.57288 (USD); Mounting Technology: Through Hole; Housing Color: Black; Contact Material: Brass; Housing Material: Nylon; Min Operating Temperature: -40°C; Max Operating Temperature: 105°C; Termination: Solder; Orientation: Right Angle; Number of Rows: 1; Number of Circuits: 12; Length: 63mm; Width: 12mm; Pitch: 5.08mm; ELV: Compliant; Lead Free: Lead Free; Flammability Rating: UL94 V-0; ComponentLink1URL: http://www.onlinecomponents.com/datasheet/395321012.aspx?p=10641442&src-supplier=Onlinecomponents.com; ComponentLink1Description: http://www.onlinecomponents.com/datasheet/395321012.aspx?p=10641442&src-supplier=Onlinecomponents.com; ComponentLink2URL: https://datasheet.octopart.com/39532-1012-Molex-datasheet-154749936.pdf?src-supplier=Master+Electronics; ComponentLink2Description: https://datasheet.octopart.com/39532-1012-Molex-datasheet-154749936.pdf?src-supplier=Master+Electronics
footprint CONN12_39532_MOL
pins: 1, 2, 3, 4, 5, 6, 7, 8, 9, 10, 11, 12

## CONN TERM BLOCK HDR 13POS 5.08MM
designator J?, comment 0395321013
5.08mm Pitch Eurostyle Horizontal PCB Header, 13 Circuits; Manufacturer: Molex; Number of Positions: 13; Current: 15A; Voltage: 300V; Number of Levels: 1; Gender: Male; Supplier 1: Digikey; Supplier Part Number 1: 0395321013-ND; Manufacturer Part Number: 0395321013; RoHS: Yes; Pricing: 2520=1.69991 (USD); Mounting Technology: Through Hole; Color: Black; Housing Color: Black; Contact Material: Brass; Housing Material: Polyamide; Contact Plating: Tin; Min Operating Temperature: -40°C; Max Operating Temperature: 105°C; Packaging: Bulk; Termination: Solder; Series: Eurostyle™ ESE 39532; Number of Rows: 1; Number of Contacts: 13; Orientation: Right Angle; Number of Positions Per Level: 13; Current Rating: 15A; Voltage Rating: 300V; Max Voltage Rating (AC): 300V; Length: 68.04mm; Pitch: 5.08mm; Depth: 12mm; ComponentLink1URL: https://datasheet.ciiva.com/5195/0395321013-terminal-blocks-166211-5195418.pdf?src-supplier=Mouser; ComponentLink1Description: https://datasheet.ciiva.com/5195/0395321013-terminal-blocks-166211-5195418.pdf?src-supplier=Mouser; ComponentLink2URL: https://datasheet.ciiva.com/10027/0395321013-terminal-blocks-10027573.pdf?src-supplier=Avnet; ComponentLink2Description: https://datasheet.ciiva.com/10027/0395321013-terminal-blocks-10027573.pdf?src-supplier=Avnet; ComponentLink3URL: https://datasheet.ciiva.com/810/395321007-sd-810510.pdf?src-supplier=Digikey; ComponentLink3Description: https://datasheet.ciiva.com/810/395321007-sd-810510.pdf?src-supplier=Digikey
footprint CONN13_39532_MOL
pins: 1, 2, 3, 4, 5, 6, 7, 8, 9, 10, 11, 12, 13

## CONN TERM BLOCK HDR 24POS 5.08MM
designator J?, comment 0395321024
5.08mm Pitch Eurostyle Horizontal PCB Header, 24 Circuits; Manufacturer: Molex; Number of Positions: 24; Current: 15A; Voltage: 300V; Number of Levels: 1; Gender: Male; Wire Gauge (Max): 2AWG; Wire Gauge (Min): 24AWG; Supplier 1: Digikey; Supplier Part Number 1: 0395321024-ND; Manufacturer Part Number: 0395321024; RoHS: Yes; Pricing: 1680=3.12309 (USD); Mounting Technology: Through Hole; Color: Black; Housing Color: Black; Housing Material: Polyamide; Contact Plating: Tin; Contact Material: Brass; Min Operating Temperature: -40°C; Max Operating Temperature: 105°C; Packaging: Bulk; Number of Rows: 1; Termination: Solder; Number of Contacts: 24; Orientation: Right Angle; Series: Eurostyle™ ESE 39532; Current Rating: 15A; Voltage Rating: 300V; Number of Positions Per Level: 24; Max Voltage Rating (AC): 300V; Length: 123.92mm; Pitch: 5.08mm; Depth: 12mm; ComponentLink1URL: https://datasheet.ciiva.com/10027/0395321024-terminal-blocks-10027395.pdf?src-supplier=Avnet; ComponentLink1Description: https://datasheet.ciiva.com/10027/0395321024-terminal-blocks-10027395.pdf?src-supplier=Avnet; ComponentLink2URL: https://datasheet.ciiva.com/5201/0395321024-terminal-blocks-136943-5201394.pdf?src-supplier=Mouser; ComponentLink2Description: https://datasheet.ciiva.com/5201/0395321024-terminal-blocks-136943-5201394.pdf?src-supplier=Mouser; ComponentLink3URL: https://datasheet.ciiva.com/813/395321007-sd-813122.pdf?src-supplier=Digikey; ComponentLink3Description: https://datasheet.ciiva.com/813/395321007-sd-813122.pdf?src-supplier=Digikey
footprint CONN24_39532_MOL
pins: 1, 2, 3, 4, 5, 6, 7, 8, 9, 10, 11, 12, 13, 14, 15, 16, 17, 18, 19, 20, 21, 22, 23, 24

## CONN_1412247
designator J?, comment 1412247
Circular connector; Insert; Female Sockets; 8 position; M8-8; 30V; Manufacturer: Phoenix Contact; Number of Positions: 8; Ratings: IP67,Waterproof,Dust Tight; Supplier 1: Digikey; Supplier Part Number 1: 277-10264-2-ND; Manufacturer Part Number: 1412247; RoHS: Yes; Category: Circular Connectors; Pricing: 100=9.09 (USD); Mounting Technology: Surface Mount; Pins: 8; Contact Material: Copper; Contact Finish - Mating: GOLD; Min Operating Temperature: -55°C; Max Operating Temperature: 105°C; Packaging: Cut Tape; Series: SACC; Termination: Solder; Voltage Rating (AC): 30V; Flammability Rating: UL94 V-0; ComponentLink1URL: https://media.digikey.com/pdf/Data%20Sheets/Phoenix%20Contact%20PDFs/1412247.pdf?src-supplier=Digikey; ComponentLink1Description: https://media.digikey.com/pdf/Data%20Sheets/Phoenix%20Contact%20PDFs/1412247.pdf?src-supplier=Digikey
footprint CONN_Phoenix Contact_1412247
pins: 1, 2, 3, 4, 5, 6, 7, 8, MP1, MP2

## Conn_FAKRA_59S2AQ-40MT5-Z_1
designator J?, comment 59S2AQ-40MT5-Z_1
Right Angle Plug Pcb W/housin; Manufacturer: Rosenberger; Supplier 1: Mouser; Supplier Part Number 1: 476-59S2AQ-40MT5-Z_1; Manufacturer Part Number: 59S2AQ-40MT5-Z_1; RoHS: Yes; Category: RF / Coaxial Connectors; Stock: 5980; Pricing: 1=2.6, 10=2.37, 50=2.37, 100=2.09, 1000=1.5, 10000=1.35 (USD); RoHS Compliant: Yes
footprint Conn_FAKRA_59S2AQ-40MT5-Z_1
pins: 1, 2, 3 hidden, 4 hidden, 5 hidden

## Conn_Tag-Connect_TC2050-IDC-NLFP_eec
designator J?  Part Number: TC2050-IDC-NLFP
CONN CBL PLUG-OF-NAILS 10-PIN; Manufacturer: Tag-Connect; helpURL: https://upverter.com/upn/revision/c59a8fc979a72537/; ComponentLink2Description: Datasheet; Temperature: to; Package: CONN_SMT_12MM446_6MM731; Supplier 2: Mouser; Supplier 1: Digi-Key; ComponentLink1URL: https://upverter.com/upn/revision/c59a8fc979a72537/; Supplier Part Number 1: TC2050-IDC-NL-ND; ComponentLink1Description: Upverter; ComponentLink2URL: http://www.tag-connect.com/Materials/TC2050-IDC-NL%20Datasheet.pdf; RoHS: TRUE; Digikey Description: CONN CBL PLUG-OF-NAILS 10-PIN; Digikey Part Number: TC2050-IDC-NL-ND; Lead Free: yes
footprint Tag-Connect_TC2050-IDC-NLFP_0
pins: 1, 2, 3, 4, 5, 6, 7, 8, 9, 10

## DAC121S101CIMKX/NOPB
designator U?
12-Bit Micro Power, RRO Digital-to-Analog Converter 6-SOT-23-THIN -40 to 105; Manufacturer: TI National Semiconductor; Number of DAC Channels: 1; Interface: SPI; Max Supply Voltage: 5.5V; Min Supply Voltage: 2.7V; Number of Bits: 12; Settling Time: 8us; Differential Output: No; Resolution: 12b; Integral Nonlinearity (INL): 8LSB; Output Type: Voltage; Supplier 1: Digikey; Supplier Part Number 1: 296-38083-1-ND; Manufacturer Part Number: DAC121S101CIMKX/NOPB; RoHS: Yes; Category: Digital to Analog Converters (DACs); Stock: 7202; Pricing: 1=2.62, 10=1.879, 25=1.6944, 100=1.4908, 250=1.39372, 500=1.33518, 1000=1.28698 (USD); Case/Package: SOT-23-6; Pins: 6; Min Operating Temperature: -40°C; Max Operating Temperature: 105°C; Package Quantity: 3000; Packaging: Tape and Reel; Number of D/A Converters: 1; Number of Converters: 1; Series: -; Lead Free: Lead Free; RoHS Compliant: Yes; ComponentLink1URL: https://datasheet.ciiva.com/6673/dac121s101-6673727.pdf?src-supplier=Digikey; ComponentLink1Description: https://datasheet.ciiva.com/6673/dac121s101-6673727.pdf?src-supplier=Digikey; ComponentLink2URL: https://datasheet.ciiva.com/3041/dac121s101-q1-3041125.pdf?src-supplier=Avnet; ComponentLink2Description: https://datasheet.ciiva.com/3041/dac121s101-q1-3041125.pdf?src-supplier=Avnet
footprint TSOT-23-6
pins: 1 VOUT (out), 2 GND (power), 3 VA (power), 4 DIN (in), 5 SCLK (in), 6 ~{SYNC} (in)

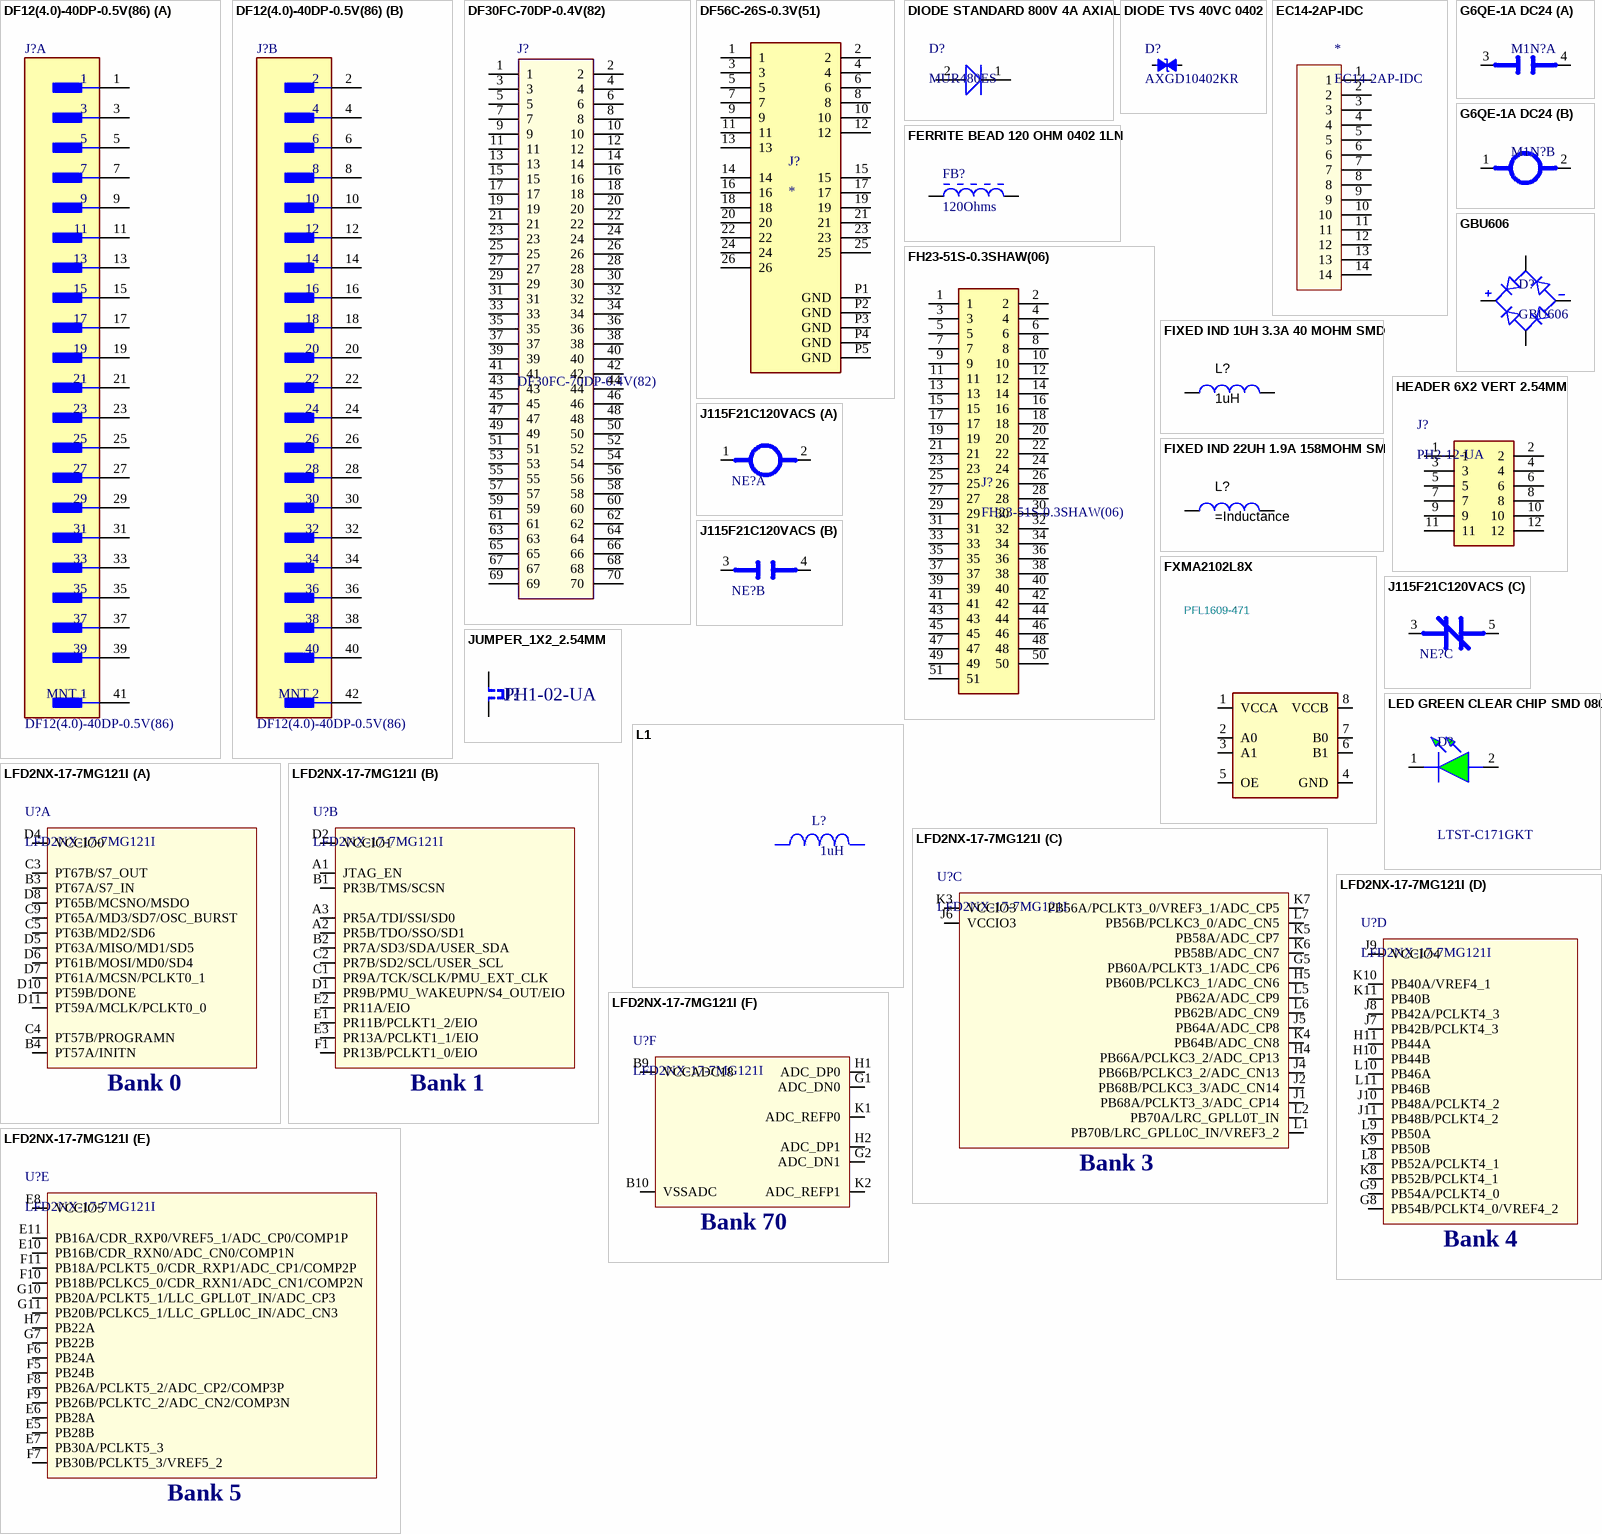
[diagram p2: symbols DF12(4.0)-40DP-0.5V(86) to LFD2NX-17-7MG121I]